# Altium integrated library BeagleBoneCape.IntLib: 16 symbols
Pins are listed as number, name and electrical type; pins without a type are passive.

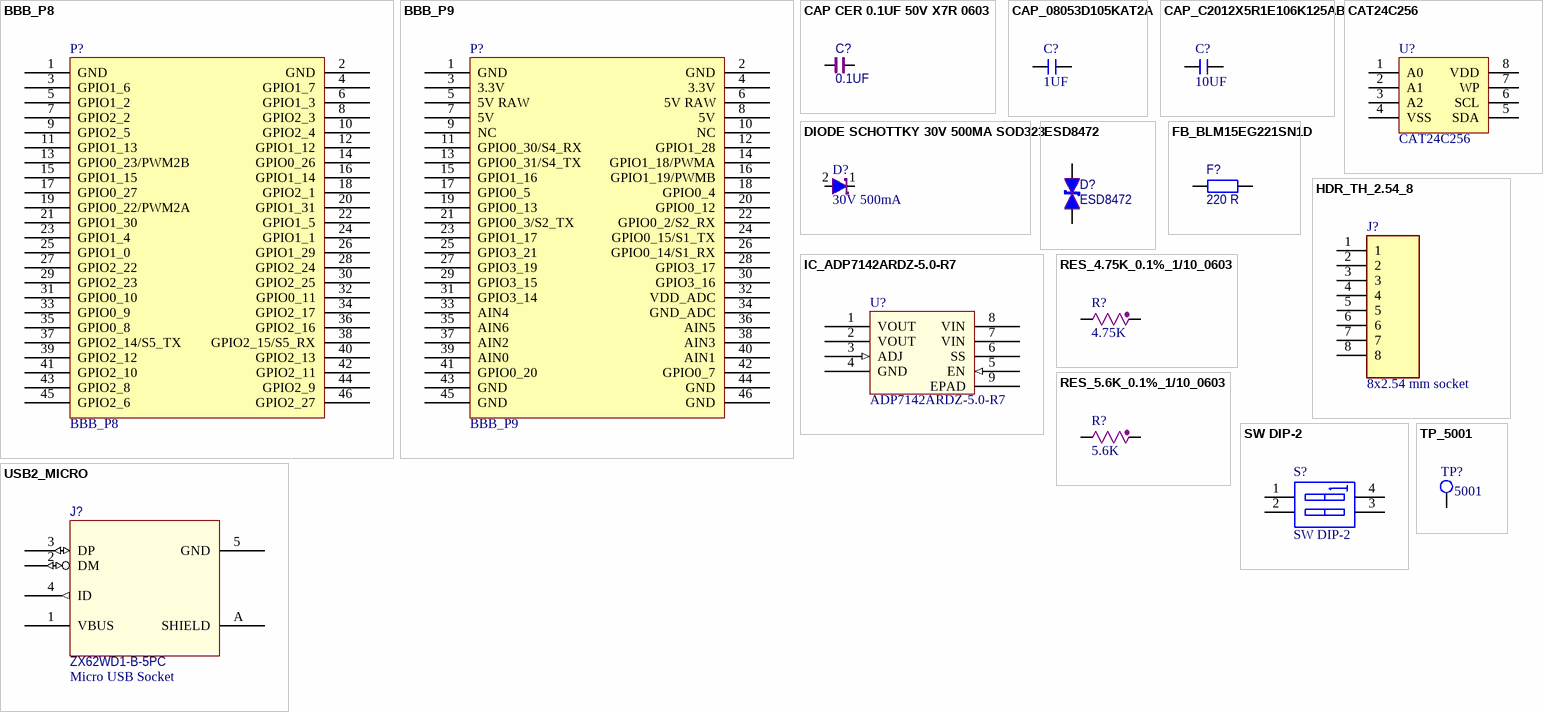
[diagram p0: symbols BBB_P8 to USB2_MICRO]

## BBB_P8
designator P?
footprint BBB_CAPE_HEADER (46-pin male header for BeagleBone Black P8,P9)
pins: 1 GND, 2 GND, 3 GPIO1_6, 4 GPIO1_7, 5 GPIO1_2, 6 GPIO1_3, 7 GPIO2_2, 8 GPIO2_3, 9 GPIO2_5, 10 GPIO2_4, 11 GPIO1_13, 12 GPIO1_12, 13 GPIO0_23/PWM2B, 14 GPIO0_26, 15 GPIO1_15, 16 GPIO1_14, 17 GPIO0_27, 18 GPIO2_1, 19 GPIO0_22/PWM2A, 20 GPIO1_31, 21 GPIO1_30, 22 GPIO1_5, 23 GPIO1_4, 24 GPIO1_1, 25 GPIO1_0, 26 GPIO1_29, 27 GPIO2_22, 28 GPIO2_24, 29 GPIO2_23, 30 GPIO2_25, 31 GPIO0_10, 32 GPIO0_11, 33 GPIO0_9, 34 GPIO2_17, 35 GPIO0_8, 36 GPIO2_16, 37 GPIO2_14/S5_TX, 38 GPIO2_15/S5_RX, 39 GPIO2_12, 40 GPIO2_13, 41 GPIO2_10, 42 GPIO2_11, 43 GPIO2_8, 44 GPIO2_9, 45 GPIO2_6, 46 GPIO2_27

## BBB_P9
designator P?
footprint BBB_CAPE_HEADER (46-pin male header for BeagleBone Black P8,P9)
pins: 1 GND, 2 GND, 3 3.3V, 4 3.3V, 5 5V RAW, 6 5V RAW, 7 5V, 8 5V, 9 NC, 10 NC, 11 GPIO0_30/S4_RX, 12 GPIO1_28, 13 GPIO0_31/S4_TX, 14 GPIO1_18/PWMA, 15 GPIO1_16, 16 GPIO1_19/PWMB, 17 GPIO0_5, 18 GPIO0_4, 19 GPIO0_13, 20 GPIO0_12, 21 GPIO0_3/S2_TX, 22 GPIO0_2/S2_RX, 23 GPIO1_17, 24 GPIO0_15/S1_TX, 25 GPIO3_21, 26 GPIO0_14/S1_RX, 27 GPIO3_19, 28 GPIO3_17, 29 GPIO3_15, 30 GPIO3_16, 31 GPIO3_14, 32 VDD_ADC, 33 AIN4, 34 GND_ADC, 35 AIN6, 36 AIN5, 37 AIN2, 38 AIN3, 39 AIN0, 40 AIN1, 41 GPIO0_20, 42 GPIO0_7, 43 GND, 44 GND, 45 GND, 46 GND

## CAP CER 0.1UF 50V X7R 0603
designator C?, comment 0.1UF
0.1µF ±5% 50V Ceramic Capacitor X7R 0603 (1608 Metric); Material: CER; Mfg: Yageo; Mfg PN: CC0603JRX7R9BB104; Symbol Date: 08-22-2016; Package: 0603; Voltage: 50V; Tolerance: 5%; Value: 0.1UF; Dielectric: X7R; Supplier 1: Digi-Key; Supplier Part Number 1: 311-1779-1-ND; Supplier 2: Mouser; Supplier Part Number 2: 603-CC603JRX7R9BB104
footprint 0603-CAP
simulation model Model Name (Model Description)
pins: 1, 2

## CAP_08053D105KAT2A
designator C?, comment 1UF
1µF ±10% 25V Ceramic Capacitor X5R 0805 (2012 Metric); Material: CER; MANF: AVX Corporation; MANF_P/N: 08053D105KAT2A; Symbol Date: 08-22-2016; Package: 0805; Voltage: 25V; Tolerance: 10%; Value: 1UF; Dielectric: X5R; Supplier 1: Digi-Key; Supplier Part Number 1: 478-1409-1-ND
footprint CAPC2013X140N
pins: 1, 2

## CAP_C2012X5R1E106K125AB
designator C?, comment 10UF
10µF ±10% 25V Ceramic Capacitor X5R 0805 (2012 Metric); Material: CER; MANF: TDK Corporation; MANF_P/N: C2012X5R1E106K125AB; Symbol Date: 08-22-2016; Package: 0805; Voltage: 25V; Tolerance: 10%; Value: 10UF; Dielectric: X5R; Supplier 1: Digi-Key; Supplier Part Number 1: 445-5984-1-ND
footprint CAPC2013X145N
pins: 1, 2

## CAT24C256
designator U?
EEPROM Memory IC 256Kb _32K x 8_ I2C 1MHz 500ns 8-SOIC; Mfg: OnSemi; Mfg PN: CAT24C256WI-GT3; Value: 256Kb I2C EEPROM; Supplier 1: Digi-Key; Supplier 2: Mouser; Supplier Part Number 1: CAT24C256WI-GT3OSCT-ND; Supplier Part Number 2: 698-CAT24C256WI-GT3
footprint SOIC127P600X175-8N
pins: 1 A0, 2 A1, 3 A2, 4 VSS, 5 SDA, 6 SCL, 7 WP, 8 VDD

## DIODE SCHOTTKY 30V 500MA SOD323
designator D?, comment 30V 500mA
Diode Schottky 30V 500mA (DC) Surface Mount SOD-323; MANF: ON Semi; MANF_P/N: NSR0530HT1G; Symbol Date: 08-25-2016; Value: 30V 500mA; Supplier 1: Mouser; Supplier Part Number 1: 863-NSR0530HT1G; Supplier 2: Digi-Key; Supplier Part Number 2: NSR0530HT1GOSCT-ND
footprint SOD-323
pins: 1, 2
2 alternate drawings of the same symbol

## ESD8472
designator D?
20V Clamp 3A (8/20µs) Ipp Tvs Diode Surface Mount 2-X3DFN (0.62x0.32); MANF: ON SEMICONDUCTOR; MANF_P/N: ESD8472MUT3G; Value: ESD8472; Supplier 1: Digi-Key; Supplier 2: Mouser; Supplier Part Number 2: 863-ESD8472MUT5G; Supplier Part Number 1: ESD8472MUT3GOSCT-ND
footprint 0201-TVS
pins: 1, 2

## FB_BLM15EG221SN1D
designator F?, comment 220 R
220 Ohms @ 100MHz 1  Ferrite Bead 0402 (1005 Metric) 700mA 280mOhm; MANF_P/N: BLM15EG221SN1D; MANF: Murata; Version: 1.0; Value: 220 R; VersionDate: 12-08-2015; Supplier 1: Digi-Key; Supplier Part Number 1: 490-4005-1-ND
footprint INDC1005X55N
pins: 1, 2

## HDR_TH_2.54_8
designator J?, comment 8x2.54 mm socket
0.1" 8 pin thru hole receptacle; Mfg: Sullins Connector Solutions; Mfg PN: PPTC081LFBN-RC; Supplier 1: Digi-Key; Supplier Part Number 1: S7006-ND; Value: 8x2.54 mm socket
footprint HDR1X8 (Connector; Header; 4 Position)
pins: 1, 2, 3, 4, 5, 6, 7, 8

## IC_ADP7142ARDZ-5.0-R7
designator U?, comment ADP7142ARDZ-5.0-R7
Linear Voltage Regulator IC  1 Output  200mA 8-SOIC-EP; MANF: Analog Devices; Value: ADP7142ARDZ-5.0-R7; MANF_P/N: ADP7142ARDZ-5.0-R7; Supplier 1: Mouser; Supplier 2: Digi-Key; Supplier Part Number 1: 584-P7142ARDZ-5.0-R7; Supplier Part Number 2: ADP7142ARDZ-5.0-R7CT-ND
footprint SOIC127P600X175-9N_ALT
pins: 1 VOUT (power), 2 VOUT (power), 3 ADJ (in), 4 GND, 5 EN (in), 6 SS, 7 VIN (power), 8 VIN (power), 9 EPAD

## RES_4.75K_0.1%_1/10_0603
designator R?, comment 4.75K
RES SMD 4.75K 0.1% 1/10W 0603; Mfg PN: RT0603BRD074K75L; Mfg: Yageo; Value: 4.75K; Supplier 1: Digi-Key; Supplier 2: Mouser; Supplier Part Number 1: YAG2310CT-ND; Supplier Part Number 2: 603-RT0603BRD074K75L
footprint 0603-RES
simulation model Model Name (Model Description)
pins: 1, 2

## RES_5.6K_0.1%_1/10_0603
designator R?, comment 5.6K
RES SMD 5.6K 0.1% 1/10W 0603; Mfg PN: RT0603BRD075K6L; Mfg: Yageo; Value: 5.6K; Supplier 1: Digi-Key; Supplier 2: Mouser; Supplier Part Number 1: YAG1699CT-ND; Supplier Part Number 2: 603-RT0603BRD075K6L
footprint 0603-RES
simulation model Model Name (Model Description)
pins: 1, 2

## SW DIP-2
designator S?
DIP Switch, 2 Position, SPST; Published: 24-Mar-1999; LatestRevisionDate: 17-Jul-2002; LatestRevisionNote: Re-released for DXP Platform.; PackageReference: DIP-4; Publisher: Altium Limited
footprint DIP-4 (DIP; 4 Leads; Row Spacing 7.62 mm; Pitch 2.54 mm)
simulation model dpsw2 (Spice Subcircuit)
pins: 1 A1, 2 A2, 3 B2, 4 B1

## TP_5001
designator TP?, comment 5001
Test Point, Black, 1-Pin THD, RoHS, Bulk; Other Names: 5001K; Catalog Drawings: 5000Series; Alternate Color: 5004K-ND / -TESTPOINTPCMINI.040"DYELLOW / 5003K-ND / -TESTPOINTPCMINI.040"DORANGE / 5002K-ND / -TESTPOINTPCMINI.040"DWHITE / 5000K-ND / -TESTPOINTPCMINI.040"DRED; MANF: Keystone; Kits: DKTGRS232C-KIT-ND / -TTLCONVERTER; Online Catalog: ColorCodedTestPoints; Datasheet URL: https://ciiva.com/datasheet-click-2917627?src=ciiva&sig=bd195616; Mounting Type: 0.040"(1.02mm)HoleDiameter; Family: TestPoints; RoHS Information: RoHSComplianceStatement; Datasheet Version: Rev. G, 12/2008; Color: Black; Category: TestandMeasurement; Standard Package: 100; Manufacturer URL: http://www.keyelco.com/; Material: Base,Nylon46,UL94V-0; Type: PCTestPoint,Miniature; Terminal: 0.010"x0.020"(0.25mmx0.51mm)PhosphorBronzeWire,SilverPlated; Series: THM; Packaging: Bulk; MANF_P/N: 5001; Supplier 1: Digi-Key; Supplier Part Number 1: 36-5001-ND
footprint KEYSTONE_5001
pins: 1

## USB2_MICRO
designator J?, comment ZX62WD1-B-5PC  Note: Micro USB Socket
USB - micro B USB 2.0 Receptacle Connector 5 Position Surface Mount, Right Angle; MANF: Hirose Electric Co Ltd; Symbol Date: 01-26-2016; MANF_P/N: ZX62WD1-B-5PC; Supplier 1: Digi-Key; Supplier Part Number 1: H12193CT-ND
footprint HIROSE_ZX62WD1-B-5PC
pins: 1 VBUS, 2 DM (io), 3 DP (io), 4 ID (out), 5 GND, A SHIELD